# EAGLE library part CONN_RJ45_MAG_WE_0_RJ45-7499010 (library BeagleBone_Black_egl)
CONN_RJ45_MAG_WE_0_RJ45-7499010
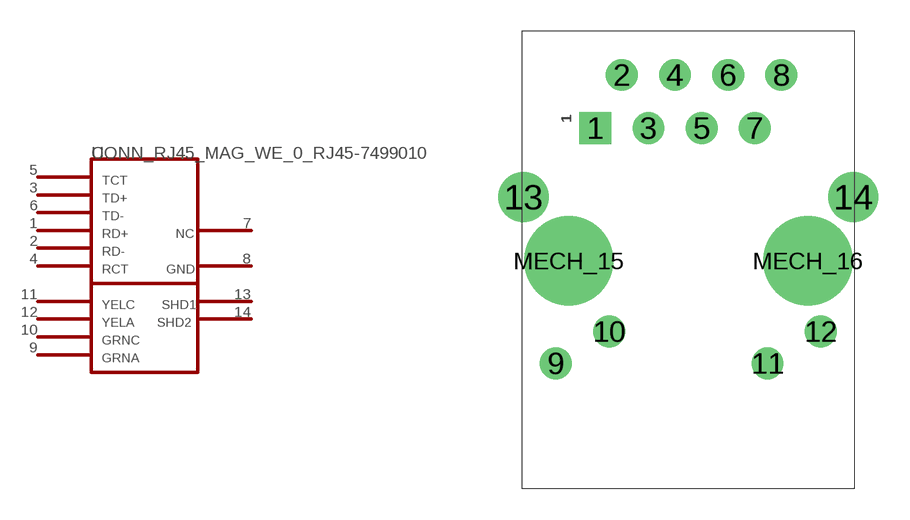
[diagram p3: symbol with the pads of RJ45-7499010211A; footprint RJ45-7499010211A]

Designator prefix -

## CONN_RJ45_MAG_WE_0_RJ45-7499010  [RJ45-7499010211A]
1  4
2  5
3  2
4  6
5  1
6  3
7  14
8  11
9  10
10  9
11  7
12  8
13  12
14  13

## Footprint RJ45-7499010211A (pad centres in mm)
drill 1.016 pad 1.524 square: 1 0,0
drill 1.016 pad 1.524: 2 1.27,2.54; 3 2.54,0; 4 3.81,2.54; 5 5.08,0; 6 6.35,2.54; 7 7.62,0; 8 8.89,2.54; 9 -1.88,-11.252; 10 0.66,-9.728; 11 8.23,-11.252; 12 10.77,-9.728
drill 1.6 pad 2.286: 13 -3.429,-3.302; 14 12.319,-3.302
drill 3.251 pad 1.016: MECH_15 -1.27,-6.35; MECH_16 10.16,-6.35